# Altium schematic symbol library TeCrea-Misc.SCHLIB: 96 symbols (part 1 of 3)
Pins are listed as number, name and electrical type; pins without a type are passive.

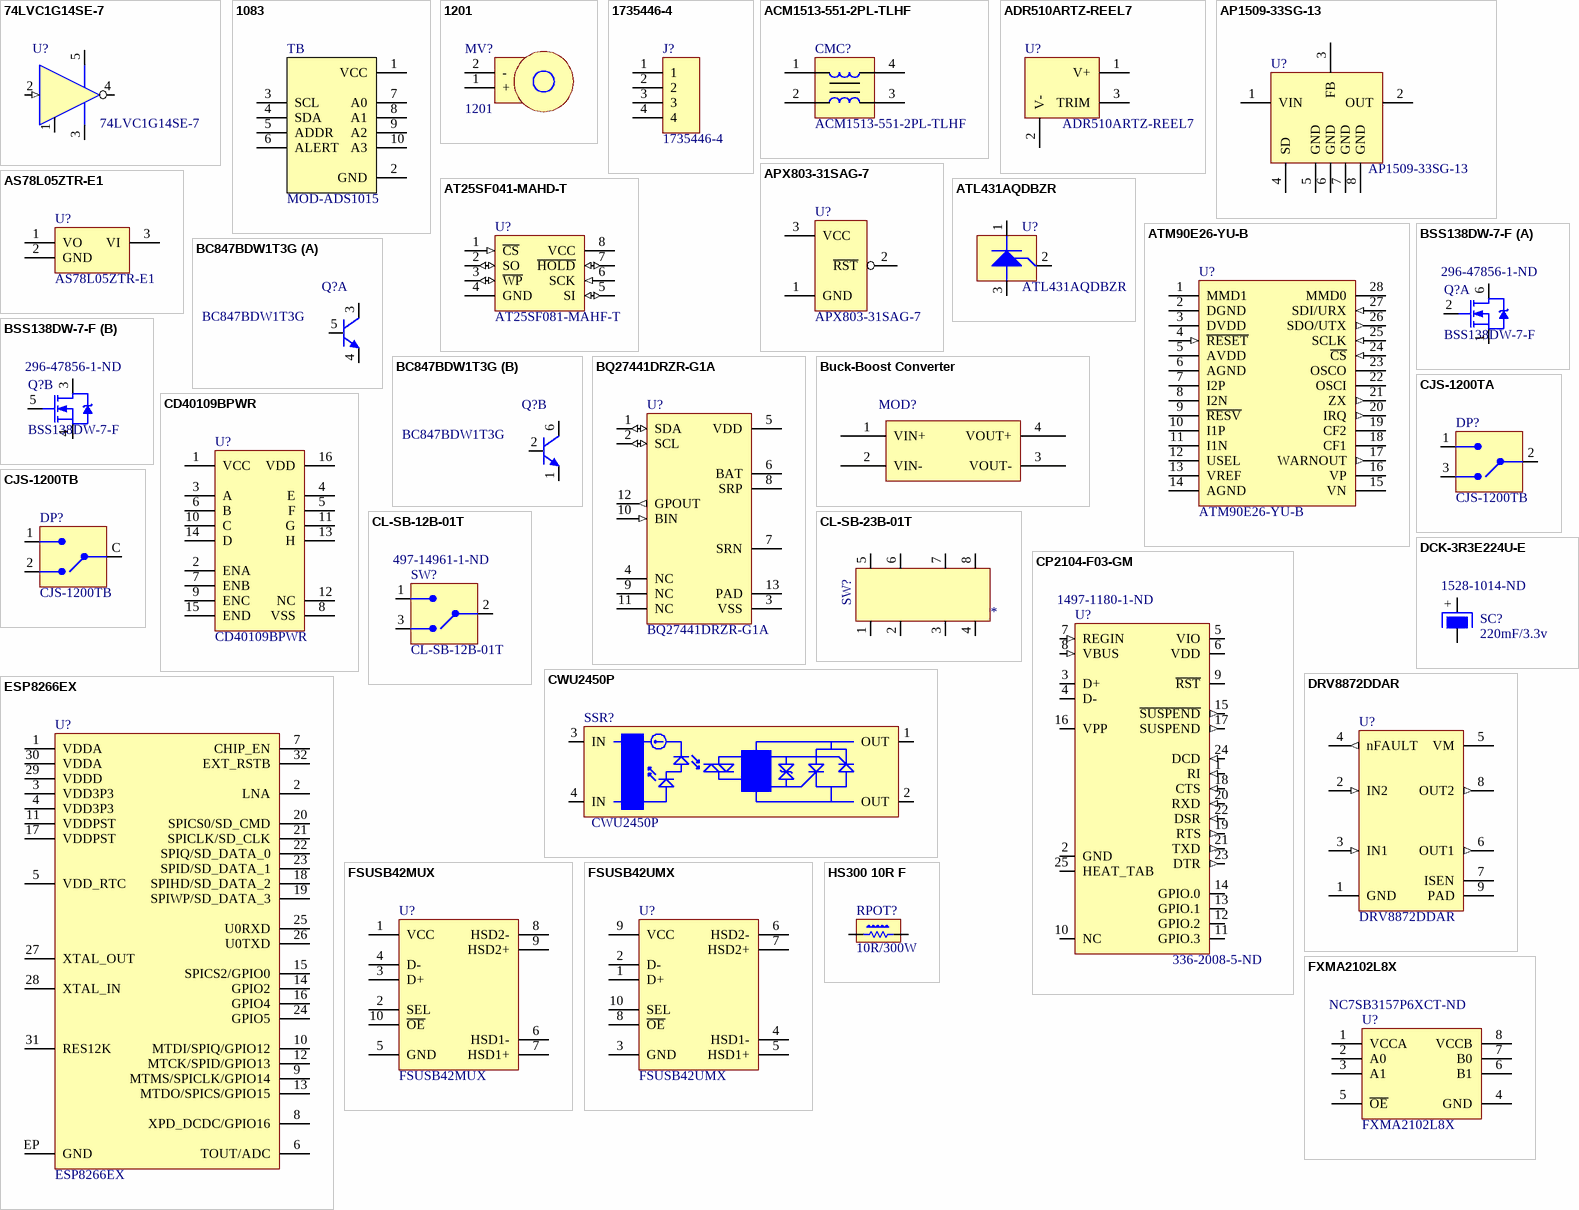
[diagram p0: symbols 74LVC1G14SE-7 to HS300 10R F]

## 74LVC1G14SE-7
designator U?
IC SGL SCHMITT INVERTER SOT353; Manufacturer: Diodes Incorporated; Number of Circuits: 1; Voltage - Supply: 1.65 V ~ 5.5 V; Current - Quiescent (Max): 200µA; Current - Output High, Low: 32mA, 32mA; Logic Level - Low: 0.3 V ~ 1.45 V; Logic Level - High: 1.2 V ~ 3.33 V; Max Propagation Delay @ V, Max CL: 5ns @ 5V, 50pF; Supplier 1: Digi-Key; Manufacturer Part Number: 74LVC1G14SE-7; RoHS: RoHS Compliant; Category: Integrated Circuits (ICs); Stock 1: 22109; Pricing 1: 1=0.26, 10=0.216, 100=0.1145, 500=0.07528, 1000=0.05129 (USD); Packaging: Cut Tape (CT); Part Status: Active; Logic Type: Inverter; Number of Inputs: 1; Features: Schmitt Trigger; Operating Temperature: -40°C ~ 125°C; Mounting Type: Surface Mount; Supplier Device Package: SOT-353; Package / Case: 5-TSSOP, SC-70-5, SOT-353; ComponentLink1URL: http://www.diodes.com/_files/datasheets/74LVC1G14.pdf; ComponentLink1Description: http://www.diodes.com/_files/datasheets/74LVC1G14.pdf; Supplier Part Number 1: 74LVC1G14SE-7CT-ND; Value: 74LVC1G14SE-7
footprint DCK5_2P15X1P4
pins: 1 NC, 2 A (in), 3 GND (power), 4 Y (oc), 5 VCC (power)

## 1083
designator TB, comment MOD-ADS1015
EVAL BOARD ADS1015 12-BIT ADC; Manufacturer: Adafruit Industries; Manufacturer Part Number: 1083; Number of Bits: 12; Evaluation Kit: Yes; Number of A/D Converters: 1; Sampling Rate: 3300S/s; Interface: I2C,Serial; Supplier 1: Digi-Key; RoHS: Yes; Category: Integrated Circuits (ICs); Stock 1: 149; Pricing 1: 1=9,95000 (USD); Weight: 0.25lb; Series: -; Length: 4inch; Width: 2.5inch; Height: 0.25inch; ComponentLink1URL: http://www.alliedelec.com/m/d/e1a2ab321d3e1c71f82076eef7bd2507.pdf?src-supplier=Allied+Electronics; ComponentLink1Description: http://www.alliedelec.com/m/d/e1a2ab321d3e1c71f82076eef7bd2507.pdf?src-supplier=Allied+Electronics; ComponentLink2URL: https://cdn-learn.adafruit.com/downloads/pdf/adafruit-4-channel-adc-breakouts.pdf?src-supplier=Digi-Key; ComponentLink2Description: https://cdn-learn.adafruit.com/downloads/pdf/adafruit-4-channel-adc-breakouts.pdf?src-supplier=Digi-Key; Supplier Part Number 1: 1528-1014-ND
footprint MOD-ADS1015-10L
pins: 1 VCC, 2 GND, 3 SCL, 4 SDA, 5 ADDR, 6 ALERT, 7 A0, 8 A1, 9 A2, 10 A3

## 1201
designator MV?
VIBRATION MOTOR 11000 RPM 5VDC; Manufacturer 1: Adafruit Industries; Supplier 1: Digi-Key; Manufacturer Part Number 1: 1201; Stock 1: 1224; Pricing 1: 1=1,95000 (USD); RoHS: Yes; Weight: 0.002lb; Termination: Wire Leads; RPM: 11000RPM; ComponentLink1URL: https://media.digikey.com/pdf/Data%20Sheets/Adafruit%20PDFs/1201_Web.pdf?src-supplier=Digi-Key; ComponentLink1Description: https://media.digikey.com/pdf/Data%20Sheets/Adafruit%20PDFs/1201_Web.pdf?src-supplier=Digi-Key; Value: 1201; Supplier Part Number 1: 1528-1177-ND
footprint 1201 (VIBRATION ERM MTR 11000 RPM 5V)
pins: 1 +, 2 -

## 1735446-4
designator J?
CONN HEADER 4PS 2MM VERT W/LATCH; Manufacturer: TE Connectivity AMP Connectors; Pitch - Mating: 0.079" (2.00mm); Style: Board to Cable/Wire; Shrouding: Shrouded - 3 Wall; Number of Positions: 4; Number of Positions Loaded: All; Contact Length - Mating: 0.132" (3.35mm); Contact Length - Post: 0.134" (3.40mm); Material Flammability Rating: UL94 V-0; Current Rating: 3A; Voltage Rating: 250V; Supplier 1: Digi-Key; Manufacturer Part Number: 1735446-4; RoHS: RoHS Compliant; Category: Connectors, Interconnects; Stock 1: 41605; Pricing 1: 1=0.14, 10=0.128, 25=0.0952, 50=0.0816, 100=0.0788, 250=0.06796, 500=0.06524, 1000=0.05709, 2500=0.05165 (USD); Packaging: Bulk; Part Status: Active; Connector Type: Header; Contact Type: Male Pin; Number of Rows: 1; Row Spacing - Mating: -; Mounting Type: Through Hole; Termination: Press-Fit, Solder; Fastening Type: Locking Ramp; Overall Contact Length: -; Insulation Height: 0.239" (6.07mm); Contact Shape: Square; Contact Finish - Mating: Tin; Contact Finish Thickness - Mating: -; Contact Finish - Post: Tin; Contact Material: Copper Alloy; Insulation Material: Thermoplastic; Features: -; Operating Temperature: -25°C ~ 85°C; Ingress Protection: -; Insulation Color: Natural; Mated Stacking Heights: -; Contact Finish Thickness - Post: -; Applications: Automotive, General Purpose, Industrial, Medical; ComponentLink1URL: http://www.te.com/commerce/DocumentDelivery/DDEController?Action=srchrtrv&DocNm=1735446&DocType=Customer+Drawing&DocLang=English; ComponentLink1Description: http://www.te.com/commerce/DocumentDelivery/DDEController?Action=srchrtrv&DocNm=1735446&DocType=Customer+Drawing&DocLang=English; Value: 1735446-4; Supplier Part Number 1: A100098-ND
footprint 1735446-4
pins: 1, 2, 3, 4

## ACM1513-551-2PL-TLHF
designator CMC?
Common Mode Filters / Chokes 550ohms 10A 0.004ohm Common Mode Filter; Manufacturer 1: TDK; DC Resistance (DCR): 4mR; Test Frequency: 100MHz; Number of Lines: 2; Impedance: 550R; Supplier 1: Digi-Key; Manufacturer Part Number 1: ACM1513-551-2PL-TLHF; RoHS: Yes; Category: Common Mode Chokes; Stock 1: 86275; Pricing 1: 1=2,70000, 10=2,49400, 100=1,74560 (USD); Mount: Surface Mount; Case/Package: 6052; Min Operating Temperature: -40°C; Max Operating Temperature: 85°C; Current: 10A; DC Current: 10A; Current Rating: 10A; Termination: SMD/SMT; Package Quantity: 1; Packaging: Tape and Reel; Length: 0.591inch; Height: 0.236inch; Depth: 13.4mm; Width: 0.512inch; Lead Free: Lead Free; ComponentLink1URL: https://datasheet.ciiva.com/28376/e9713-acm-28376279.pdf?src-supplier=Avnet+Europe; ComponentLink1Description: https://datasheet.ciiva.com/28376/e9713-acm-28376279.pdf?src-supplier=Avnet+Europe; Value: ACM1513-551-2PL-TLHF; Supplier Part Number 1: 445-9331-1-ND
footprint ACM1513
pins: 1, 2, 3, 4

## ADR510ARTZ-REEL7
designator U?
IC VREF SHUNT 1V SOT23-3; Manufacturer: Analog Devices Inc.; Output Type: Fixed; Current - Output: 10mA; Tolerance: ±0.35%; Temperature Coefficient: 85ppm/°C; Noise - 0.1Hz to 10Hz: 4µVp-p; Current - Cathode: 100µA; Supplier 1: Digi-Key; Manufacturer Part Number: ADR510ARTZ-REEL7; RoHS: RoHS Compliant; Category: Integrated Circuits (ICs); Stock 1: 9660; Pricing 1: 1=1.61, 10=1.447, 100=1.1628, 500=0.95532, 1000=0.79156 (USD); Packaging: Cut Tape (CT); Part Status: Active; Reference Type: Shunt; Voltage - Output (Min/Fixed): 1V; Voltage - Output (Max): -; Noise - 10Hz to 10kHz: -; Voltage - Input: -; Current - Supply: -; Operating Temperature: -40°C ~ 85°C (TA); Mounting Type: Surface Mount; Package / Case: TO-236-3, SC-59, SOT-23-3; Supplier Device Package: SOT-23-3; ComponentLink1URL: http://www.analog.com/media/en/technical-documentation/data-sheets/ADR510.pdf; ComponentLink1Description: http://www.analog.com/media/en/technical-documentation/data-sheets/ADR510.pdf; Supplier Part Number 1: ADR510ARTZ-REEL7CT-ND; Value: ADR510ARTZ-REEL7
footprint SOT-23_N (SOT23, 3-Leads, Body 2.9x1.3mm, Pitch 0.95mm, Lead Span 2.5mm, IPC Medium Density)
pins: 1 V+, 2 V-, 3 TRIM

## AP1509-33SG-13
designator U?
IC REG BUCK 3.3V 2A 8SOIC; Manufacturer: Diodes Incorporated; Function: Step-Down; Output Configuration: Positive; Output Type: Fixed; Number of Outputs: 1; Voltage - Input (Min): 4.5V; Voltage - Input (Max): 22V; Frequency - Switching: 150kHz; Synchronous Rectifier: No; Supplier 1: Digi-Key; Manufacturer Part Number: AP1509-33SG-13; RoHS: RoHS Compliant; Category: Integrated Circuits (ICs); Stock 1: 918; Pricing 1: 1=1.63, 10=1.459, 100=1.1373, 500=0.93948, 1000=0.74169 (USD); Packaging: Cut Tape (CT); Part Status: Active; Topology: Buck; Voltage - Output (Min/Fixed): 3.3V; Voltage - Output (Max): -; Current - Output: 2A; Operating Temperature: -20°C ~ 85°C (TA); Mounting Type: Surface Mount; Package / Case: 8-SOIC (0.154", 3.90mm Width); Supplier Device Package: 8-SOP; ComponentLink1URL: http://www.diodes.com/assets/Datasheets/AP1509.pdf; ComponentLink1Description: http://www.diodes.com/assets/Datasheets/AP1509.pdf; Value: AP1509-33SG-13; Supplier Part Number 1: AP1509-33SGDICT-ND
footprint SOIC8 (SOIC, 8-Leads, Body 4.9x3.9mm, Pitch 1.27mm, IPC Medium Density)
pins: 1 VIN, 2 OUT, 3 FB, 4 SD, 5 GND, 6 GND, 7 GND, 8 GND

## APX803-31SAG-7
designator U?
IC MPU RESET CIRC 3.08V SOT23-3; Manufacturer: Diodes Incorporated; Output: Open Drain or Open Collector; Reset: Active Low; Reset Timeout: 140 ms Minimum; Supplier 1: Digi-Key; Manufacturer Part Number: APX803-31SAG-7; RoHS: RoHS Compliant; Category: Integrated Circuits (ICs); Stock 1: 13889; Pricing 1: 1=0.43, 10=0.349, 100=0.2373, 500=0.17798, 1000=0.13349 (USD); Packaging: Cut Tape (CT); Part Status: Active; Type: Simple Reset/Power-On Reset; Voltage - Threshold: 3.08V; Operating Temperature: -40°C ~ 85°C (TA); Mounting Type: Surface Mount; Package / Case: TO-236-3, SC-59, SOT-23-3; Supplier Device Package: SOT-23-3; ComponentLink1URL: http://media.digikey.com/pdf/Data%20Sheets/Diodes%20PDFs/APX803_D_Rev_3.3.pdf; ComponentLink1Description: http://media.digikey.com/pdf/Data%20Sheets/Diodes%20PDFs/APX803_D_Rev_3.3.pdf; Supplier Part Number 1: APX803-31SAG-7DICT-ND; Value: APX803-31SAG-7
footprint SOT-23_M (SOT23, 3-Leads, Body 2.9x1.3mm, Pitch 0.95mm, Lead Span 2.5mm, IPC Low Density)
pins: 1 GND, 2 ~{RST}, 3 VCC

## AS78L05ZTR-E1
designator U?
Standard Regulator Pos 5V 0.1A 3-Pin TO-92 Ammo Pack; Manufacturer: Diodes; Output Type: Fixed; Dropout Voltage: 1.8V; Number of Outputs: 1; Max Input Voltage: 30V; Max Output Current: 100mA; Max Power Dissipation: 750mW; Polarity: Positive; Quiescent Current: 3mA; Accuracy: 5%; Supplier 1: Digi-Key; Manufacturer Part Number: AS78L05ZTR-E1; RoHS: Yes; Category: Voltage Regulators - Linear; Stock 1: 6278; Pricing 1: 1=0,34000, 10=0,25600, 25=0,22400, 100=0,12810, 250=0,12008, 500=0,09606, 1000=0,07365 (USD); Mount: Through Hole; Case/Package: TO-92; Number of Pins: 3; Min Operating Temperature: -40°C; Max Operating Temperature: 125°C; Package Quantity: 1; Packaging: Tape and Reel; Output Voltage: 5V; Output Current: 100mA; Number of Regulators: 1; Power Dissipation: 750mW; Length: 4.8mm; Height: 4.7mm; Width: 3.8mm; ComponentLink1URL: https://datasheet.ciiva.com/29569/as78lxx-29569865.pdf?src-supplier=Digi-Key; ComponentLink1Description: https://datasheet.ciiva.com/29569/as78lxx-29569865.pdf?src-supplier=Digi-Key; ComponentLink2URL: https://datasheet.ciiva.com/29569/as78lxx-29569853.pdf?src-supplier=Digi-Key; ComponentLink2Description: https://datasheet.ciiva.com/29569/as78lxx-29569853.pdf?src-supplier=Digi-Key; ComponentLink3URL: https://datasheet.ciiva.com/30016/as78lxx-30016638.pdf?src-supplier=Avnet; ComponentLink3Description: https://datasheet.ciiva.com/30016/as78lxx-30016638.pdf?src-supplier=Avnet; Value: AS78L05ZTR-E1; Supplier Part Number 1: AS78L05ZTR-E1DICT-ND
footprint TO-92
pins: 1 VO, 2 GND, 3 VI

## AT25SF041-MAHD-T
designator U?, comment AT25SF081-MAHF-T
8-UDFN (2X3X0.6), IND TEMP, 2.5V, T&R; Manufacturer: Adesto Technologies; Interface: SPI,Serial; Density: 8MB; Access Time: 8ns; Operating Supply Voltage: 3.3V; Page Size: 256B; Max Supply Voltage: 3.6V; Supplier 1: Digi-Key; Manufacturer Part Number: AT25SF081-MAHF-T; Stock 1: 5291; Pricing 1: 1=0.63 (USD); Mount: Surface Mount; Min Operating Temperature: -40°C; Max Operating Temperature: 85°C; Min Supply Voltage: 2.5V; Packaging: Tape and Reel; Lead Free: Lead Free; ComponentLink1URL: http://www.adestotech.com/wp-content/uploads/DS-AT25SF041_044.pdf; ComponentLink1Description: http://www.adestotech.com/wp-content/uploads/DS-AT25SF041_044.pdf; ComponentLink2URL: http://www.mouser.com/ds/2/590/DS-AT25SF041_044-534001.pdf; ComponentLink2Description: http://www.mouser.com/ds/2/590/DS-AT25SF041_044-534001.pdf; Value: AT25SF081-MAHF-T; Supplier Part Number 1: 1265-1294-1-ND
footprint UDFN8-2X3 (UDFN, 8-Leads, Body 2,00x3,00mm, Pitch 0,50mm, Thermal Pad 1,60x0,20mm, IPC Medium Density)
footprint TSOP65P640X120-8N (TSOP, 8-Leads, Body 3,00x4,40mm, Pitch 0,65mm, IPC Medium Density)
pins: 1 ~{CS} (in), 2 SO (io), 3 ~{WP} (io), 4 GND, 5 SI (io), 6 SCK (in), 7 ~{HOLD} (io), 8 VCC

## ATL431AQDBZR
designator U?
IC VREF SHUNT ADJ SOT23-3; Manufacturer: Texas Instruments; Min Output Voltage: 2.5V; Max Output Voltage: 36V; Output Current: 100mA; Temperature Coefficient: 82ppm/°C; Cathode Current: 35uA; Tolerance: 1%; Output Type: Adjustable; Supplier 1: Digi-Key; Manufacturer Part Number: ATL431AQDBZR; RoHS: Yes; Stock 1: 7625; Pricing 1: 1 = 0,60000, 10 = 0,53000, 100 = 0,40650, 500 = 0,32136, 1000 = 0,25709 (USD); Mount: Surface Mount; Case/Package: TO-236-3; Min Operating Temperature: -40°C; Max Operating Temperature: 125°C; Packaging: Tape and Reel; Reference Type: Shunt; Lead Free: Lead Free; Value: ATL431AQDBZR; Supplier Part Number 1: 296-47201-1-ND
footprint SOT-23_L (SOT23, 3-Leads, Body 2.9x1.3mm, Pitch 0.95mm, Lead Span 2.5mm, IPC High Density)
pins: 1 K, 2 VREF, 3 A

## ATM90E26-YU-B
designator U?
IC ENERGY METER 1.8V/3V 28SSOP; Manufacturer: Microchip Technology; Input Impedance: 1 kOhm, 400 kOhm; Measurement Error: 0.5%; Voltage - Supply: 2.8 V ~ 3.6 V; Meter Type: Single Phase; Supplier 1: Digi-Key; Manufacturer Part Number: ATM90E26-YU-B; RoHS: RoHS Compliant; Category: Integrated Circuits (ICs); Stock 1: 9396; Pricing 1: 1=0.95, 25=0.8756, 100=0.8369 (USD); Packaging: Bulk; Part Status: Active; Voltage - I/O High: -; Voltage - I/O Low: -; Current - Supply: -; Operating Temperature: -40°C ~ 85°C; Mounting Type: Surface Mount; Package / Case: 28-SSOP (0.209", 5.30mm Width); Supplier Device Package: 28-SSOP; ComponentLink1URL: http://www.atmel.com/Images/Atmel-46002-SE-M90E26-Datasheet.pdf; ComponentLink1Description: http://www.atmel.com/Images/Atmel-46002-SE-M90E26-Datasheet.pdf; Supplier Part Number 1: ATM90E26-YU-B-ND; Value: ATM90E26-YU-B
footprint SOP127P600-8N
pins: 1 MMD1, 2 DGND, 3 DVDD, 4 ~{RESET} (in), 5 AVDD, 6 AGND, 7 I2P, 8 I2N, 9 ~{RESV}, 10 I1P, 11 I1N, 12 USEL, 13 VREF, 14 AGND, 15 VN, 16 VP, 17 WARNOUT (out), 18 CF1, 19 CF2, 20 IRQ (out), 21 ZX (out), 22 OSCI, 23 OSCO, 24 ~{CS} (in), 25 SCLK (in), 26 SDO/UTX (out), 27 SDI/URX (in), 28 MMD0

## BC847BDW1T3G
designator Q?
TRANS 2NPN 45V 0.1A SOT363; Manufacturer: ON Semiconductor; Transistor Type: 2 NPN (Dual); Current - Collector (Ic) (Max): 100mA; Vce Saturation (Max) @ Ib, Ic: 600mV @ 5mA, 100mA; Current - Collector Cutoff (Max): 15nA (ICBO); DC Current Gain (hFE) (Min) @ Ic, Vce: 200 @ 2mA, 5V; Power - Max: 380mW; Frequency - Transition: 100MHz; Supplier 1: Digi-Key; Manufacturer Part Number: BC847BDW1T3G; RoHS: RoHS Compliant; Category: Discrete Semiconductor Products; Stock 1: 29723; Pricing 1: 1=0.23, 10=0.192, 100=0.1016, 500=0.06678, 1000=0.0455 (USD); Packaging: Cut Tape (CT); Part Status: Active; Voltage - Collector Emitter Breakdown (Max): 45V; Operating Temperature: -55°C ~ 150°C (TJ); Mounting Type: Surface Mount; Package / Case: 6-TSSOP, SC-88, SOT-363; Supplier Device Package: SC-88/SC70-6/SOT-363; ComponentLink1URL: http://www.onsemi.com/pub_link/Collateral/BC846BDW1T1-D.PDF; ComponentLink1Description: http://www.onsemi.com/pub_link/Collateral/BC846BDW1T1-D.PDF; Value: BC847BDW1T3G; Supplier Part Number 1: BC847BDW1T3GOSCT-ND
footprint SOT-363
part A pins: 3 C, 4 E, 5 B
part B pins: 1 E, 2 B, 6 C

## BQ27441DRZR-G1A
designator U?
IC BATT FUEL GAUGE LI-ION 12SON; Manufacturer: Texas Instruments; Number of Cells: 1; Interface: I2C; Capacity: 8000mAh; Output Voltage: 600mV; Output Current: 500uA; Operating Supply Voltage: 4.5V; Supplier 1: Digi-Key; Manufacturer Part Number: BQ27441DRZR-G1A; Stock 1: 6597; Pricing 1: 1=2.62, 10=2.353, 100=1.8911, 500=1.5538, 1000=1.2874 (USD); Mount: Surface Mount; Case/Package: QFN; Number of Pins: 12; Contact Plating: Nickel,Gold; Min Operating Temperature: -40°C; Max Operating Temperature: 85°C; Package Quantity: 3000; Packaging: Tape and Reel; Lead Free: Lead Free; ComponentLink1URL: http://www.ti.com/general/docs/lit/getliterature.tsp?genericPartNumber=BQ27441-G1&amp;&amp;fileType=pdf; ComponentLink1Description: http://www.ti.com/general/docs/lit/getliterature.tsp?genericPartNumber=BQ27441-G1&amp;&amp;fileType=pdf; ComponentLink2URL: http://www.ti.com/lit/gpn/bq27441-g1; ComponentLink2Description: http://www.ti.com/lit/gpn/bq27441-g1; ComponentLink3URL: http://www.ti.com/lit/pdf/sluuac; ComponentLink3Description: http://www.ti.com/lit/pdf/sluuac; ComponentLink4URL: http://www.ti.com/general/docs/lit/getliterature.tsp?genericPartNumber=BQ27441-G1&&fileType=pdf; ComponentLink4Description: http://www.ti.com/general/docs/lit/getliterature.tsp?genericPartNumber=BQ27441-G1&&fileType=pdf; Supplier Part Number 1: 296-39941-6-ND; Value: BQ27441DRZR-G1A
footprint SON40P400X100_HS-13N (SON, 12-Leads, Body 2.50x4.00mm, Pitch 0.40mm, Thermal Pad 1.95x2.33mm, IPC Medium Density)
pins: 1 SDA (io), 2 SCL (io), 3 VSS, 4 NC, 5 VDD, 6 BAT, 7 SRN, 8 SRP, 9 NC, 10 BIN (in), 11 NC, 12 GPOUT (out), 13 PAD

## BSS138DW-7-F
designator Q?  Supplier Part Number 2: 296-47856-1-ND
MOSFET 2N-CH 50V 0.2A SC70-6; Manufacturer: Diodes Incorporated; FET Type: 2 N-Channel (Dual); FET Feature: Logic Level Gate; Current - Continuous Drain (Id) @ 25°C: 200mA; Rds On (Max) @ Id, Vgs: 3.5 Ohm @ 220mA, 10V; Vgs(th) (Max) @ Id: 1.5V @ 250µA; Input Capacitance (Ciss) @ Vds: 50pF @ 10V; Power - Max: 200mW; Supplier 1: Digi-Key; Supplier Part Number 1: BSS138DW-FDICT-ND; Manufacturer Part Number: BSS138DW-7-F; RoHS: RoHS Compliant; Category: Discrete Semiconductor Products; Stock 1: 166676; Pricing 1: 1=0.45, 10=0.363, 100=0.2475, 500=0.18526, 1000=0.13875 (USD); Packaging: Cut Tape (CT); Drain to Source Voltage (Vdss): 50V; Gate Charge (Qg) @ Vgs: -; Operating Temperature: -55°C ~ 150°C (TJ); Mounting Type: Surface Mount; Package / Case: 6-TSSOP, SC-88, SOT-363; Supplier Device Package: SOT-363; ComponentLink1URL: http://www.diodes.com/_files/datasheets/ds30203.pdf; ComponentLink1Description: http://www.diodes.com/_files/datasheets/ds30203.pdf; Value: BSS138DW-7-F; Supplier 2: Digi-Key
footprint SOT-363
part A pins: 1 S, 2 G, 6 D
part B pins: 3 D, 4 S, 5 G

## Buck-Boost Converter
designator MOD?
This converter can take an input voltage of anywhere from 3-16V which can then be regulated to an output voltage between 2.5-9V. With the switch on the bottom of the board, you can set the common output voltages of 3.3V and 5V, but we've also added a custom setting
footprint PCB BOOTS
pins: 1 VIN+, 2 VIN-, 3 VOUT-, 4 VOUT+

## CD40109BPWR
designator U?
IC CMOS LO-HI V LVL SHFT 16TSSOP; Manufacturer: Texas Instruments; Translator Type: Voltage Level; Channel Type: Unidirectional; Channels per Circuit: 1; Output Type: Tri-State, Non-Inverted; Supplier 1: Digi-Key; Manufacturer Part Number: CD40109BPWR; RoHS: RoHS Compliant; Category: Integrated Circuits (ICs); Stock 1: 11881; Pricing 1: 1=0.43, 10=0.367, 100=0.274, 500=0.21528, 1000=0.16635 (USD); Packaging: Cut Tape (CT); Part Status: Active; Input Signal: -; Output Signal: -; Data Rate: -; Operating Temperature: -55°C ~ 125°C (TA); Features: -; Mounting Type: Surface Mount; Package / Case: 16-TSSOP (0.173", 4.40mm Width); Supplier Device Package: 16-TSSOP; Base Part Number: 40109; ComponentLink1URL: http://www.ti.com/lit/ds/symlink/cd40109b.pdf; ComponentLink1Description: http://www.ti.com/lit/ds/symlink/cd40109b.pdf; Value: CD40109BPWR; Supplier Part Number 1: 296-12163-1-ND
footprint TSOP65P640X120-16N (TSOP, 16-Leads, Body 5.00x4.40mm, Pitch 0.65mm, IPC Medium Density)
pins: 1 VCC, 2 ENA, 3 A, 4 E, 5 F, 6 B, 7 ENB, 8 VSS, 9 ENC, 10 C, 11 G, 12 NC, 13 H, 14 D, 15 END, 16 VDD

## CJS-1200TA
designator DP?, comment CJS-1200TB
SWITCH SLIDE DIP SPDT 100MA 6V; Manufacturer: Copal Electronics Inc.; Number of Positions: 2; Voltage Rating: 6VDC; Actuator Type: Slide (Standard); Actuator Level: Flush, Recessed; Washable: Yes; Body Material: Polyphenylene Sulfide (PPS); Electrical Life: 200 Cycles; Supplier 1: Digi-Key; Manufacturer Part Number: CJS-1200TB; RoHS: RoHS Compliant; Category: Switches; Stock 1: 92481; Pricing 1: 1=0.85, 10=0.838, 25=0.7892, 50=0.741, 100=0.7088, 250=0.6766, 500=0.61216 (USD); Packaging: Cut Tape (CT); Part Status: Active; Circuit: SPDT; Current Rating: 100mA; Contact Material: Copper Alloy; Contact Finish: Gold; Height Above Board: 0.098" (2.50mm); Mounting Type: Surface Mount; Termination Style: Gull Wing; Pitch: -; Features: Tape Seal; Length: 0.212" (5.40mm); Operating Temperature: -40°C ~ 85°C; Mechanical Life: -; ComponentLink1URL: http://www.nidec-copal-electronics.com/e/catalog/switch/cjs.pdf; ComponentLink1Description: http://www.nidec-copal-electronics.com/e/catalog/switch/cjs.pdf; Value: CJS-1200TB; Supplier Part Number 1: 563-1022-1-ND
footprint CJS-1200TA
pins: 1, 2, 3 2

## CJS-1200TB
designator DP?
SWITCH SLIDE DIP SPDT 100MA 6V; Manufacturer: Copal Electronics Inc.; Number of Positions: 2; Voltage Rating: 6VDC; Actuator Type: Slide (Standard); Actuator Level: Flush, Recessed; Washable: Yes; Body Material: Polyphenylene Sulfide (PPS); Electrical Life: 200 Cycles; Supplier 1: Digi-Key; Manufacturer Part Number: CJS-1200TB; RoHS: RoHS Compliant; Category: Switches; Stock 1: 92481; Pricing 1: 1=0.85, 10=0.838, 25=0.7892, 50=0.741, 100=0.7088, 250=0.6766, 500=0.61216 (USD); Packaging: Cut Tape (CT); Part Status: Active; Circuit: SPDT; Current Rating: 100mA; Contact Material: Copper Alloy; Contact Finish: Gold; Height Above Board: 0.098" (2.50mm); Mounting Type: Surface Mount; Termination Style: Gull Wing; Pitch: -; Features: Tape Seal; Length: 0.212" (5.40mm); Operating Temperature: -40°C ~ 85°C; Mechanical Life: -; ComponentLink1URL: http://www.nidec-copal-electronics.com/e/catalog/switch/cjs.pdf; ComponentLink1Description: http://www.nidec-copal-electronics.com/e/catalog/switch/cjs.pdf; Value: CJS-1200TB; Supplier Part Number 1: 563-1022-1-ND
footprint CJS-1200TB (Dip Switch SPDT 2 Position Surface Mount Slide (Standard) Actuator 100mA 6VDC)
pins: 1, 2, C

## CL-SB-12B-01T
designator SW?  Supplier Part Number 2: 497-14961-1-ND
SWITCH SLIDE SPDT 200MA 12V; Manufacturer: Copal Electronics Inc.; Contact Timing: Non-Shorting (BBM); Switch Function: On-On; Current Rating: 200mA (DC); Actuator Type: Standard; Actuator Length: 2.00mm; Actuator Material: Polyamide (PA), Nylon; Electrical Life: 10,000 Cycles; Operating Force: 153gf; Supplier 1: Digi-Key; Manufacturer Part Number: CL-SB-12B-01T; RoHS: RoHS Compliant; Category: Switches; Stock 1: 23000; Pricing 1: 500=0.53328, 1000=0.51712, 5000=0.45248 (USD); Packaging: Tape & Reel (TR); Part Status: Active; Circuit: SPDT; Voltage Rating - AC: -; Voltage Rating - DC: 12V; Contact Material: Copper; Contact Finish: Silver; Mounting Type: Surface Mount; Termination Style: Gull Wing; Features: -; Switch Travel: 2.00mm; Operating Temperature: -40°C ~ 85°C; Mechanical Life: -; ComponentLink1URL: http://www.nidec-copal-electronics.com/e/catalog/switch/cl-sb.pdf; ComponentLink1Description: http://www.nidec-copal-electronics.com/e/catalog/switch/cl-sb.pdf; Value: CL-SB-12B-01T; Supplier Part Number 1: 563-1318-2-ND; Supplier 2: Digi-Key
footprint CL-SB-12B-01T
pins: 1, 2, 3

## CL-SB-23B-01T
designator SW?
SWITCH SLIDE DP3T 200MA 12V; Manufacturer: Copal Electronics Inc.; Manufacturer Part Number: CL-SB-23B-01T; Contact Timing: Non-Shorting (BBM); Switch Function: On-On-On; Current Rating: 200mA (DC); Actuator Type: Standard; Actuator Length: 2.00mm; Actuator Material: Polyamide (PA), Nylon; Electrical Life: 10,000 Cycles; Operating Force: 160/260gf; Supplier 1: Digi-Key; RoHS: RoHS Compliant; Category: Switches; Stock 1: 1946; Pricing 1: 1=1.15, 10=1.107, 25=1.0836, 50=0.9682, 100=0.9221, 250=0.89908 (USD); Packaging: Cut Tape (CT); Part Status: Active; Circuit: DP3T; Voltage Rating - AC: -; Voltage Rating - DC: 12V; Contact Material: Copper; Contact Finish: Silver; Mounting Type: Surface Mount; Termination Style: Gull Wing; Features: -; Switch Travel: 2.00mm; Operating Temperature: -40°C ~ 85°C; Mechanical Life: -; ComponentLink1URL: http://www.nidec-copal-electronics.com/e/catalog/switch/cl-sb.pdf; ComponentLink1Description: http://www.nidec-copal-electronics.com/e/catalog/switch/cl-sb.pdf; Supplier Part Number 1: 563-1354-1-ND; Value: *
footprint CL-SB-23B-01T (Slide Switch DP3T Surface Mount)
pins: 1, 2, 3, 4, 5, 6, 7, 8

## CP2104-F03-GM
designator U?, comment 336-2008-5-ND  Supplier Part Number 2: 1497-1180-1-ND
IC SGL USB-DL UART BRIDGE 24QFN; Manufacturer: Silicon Labs; Manufacturer Part Number: CP2104-F03-GM; Protocol: USB; Function: Bridge, USB to UART; Standards: USB 2.0; Voltage - Supply: 1.8V, 3 V ~ 3.6 V; Current - Supply: 17mA; Populated: Yes; RoHS: RoHS Compliant; Category: Integrated Circuits (ICs); Packaging: Tube; Interface: UART; Operating Temperature: -40°C ~ 85°C; Package / Case: 24-WFQFN Exposed Pad; Supplier Device Package: 24-QFN (4x4); ComponentLink1URL: http://www.silabs.com/Support%20Documents/TechnicalDocs/CP2105.pdf; ComponentLink1Description: http://www.silabs.com/Support%20Documents/TechnicalDocs/CP2105.pdf; Value: 336-2008-5-ND; Supplier 1: Digi-Key; Supplier Part Number 1: 336-2008-5-ND; Supplier 2: Digi-Key
footprint QFN24_4X4
footprint QFN24_4X4-L
footprint QFN24_4X4-M
pins: 1 RI (in), 2 GND (power), 3 D+, 4 D-, 5 VIO (power), 6 VDD (power), 7 REGIN (in), 8 VBUS (in), 9 ~{RST}, 10 NC, 11 GPIO.3, 12 GPIO.2, 13 GPIO.1, 14 GPIO.0, 15 ~{SUSPEND} (out), 16 VPP, 17 SUSPEND (out), 18 CTS (in), 19 RTS (out), 20 RXD (in), 21 TXD (out), 22 DSR (in), 23 DTR (out), 24 DCD (in), 25 HEAT_TAB

## CWU2450P
designator SSR?
RELAY SSR 280VAC 50A PANEL MOUNT; Manufacturer: Crydom Co.; Circuit: SPST-NO (1 Form A); Output Type: AC, Zero Cross; Voltage - Input: 20 ~ 48VDC, 20 ~ 280VAC; Voltage - Load: 24 ~ 280 V; Populated: Yes; Supplier 1: Digi-Key; Supplier Part Number 1: CC2094-ND; Manufacturer Part Number: CWU2450P; RoHS: RoHS Compliant; Category: Relays; Stock 1: 19; Pricing 1: 1=57.67, 10=54.96, 25=53.7, 50=52.43, 100=50.9001 (USD); Packaging: Bulk; On-State Resistance (Max): -; Load Current: 50A; Mounting Type: Chassis Mount or Panel Mount; Termination Style: Screw Terminal; Package / Case: Hockey Puck; Supplier Device Package: -; Relay Type: Relay; ComponentLink1URL: http://www.crydom.com/en/Products/Catalog/c_w24.pdf; ComponentLink1Description: http://www.crydom.com/en/Products/Catalog/c_w24.pdf; Value: CWU2450P
footprint CWU2450P
pins: 1 OUT, 2 OUT, 3 IN, 4 IN

## DCK-3R3E224U-E
designator SC?, comment 220mF/3.3v  Supplier Part Number 2: 1528-1014-ND
CAP 220MF -20% +80% 3.3V SMD; Manufacturer: Elna America; Manufacturer Part Number: DCK-3R3E224U-E; Tolerance: -20%, +80%; ESR (Equivalent Series Resistance): 200 Ohm @ 1kHz; Lifetime @ Temp.: 1000 Hrs @ 60°C; Supplier 1: Digi-Key; RoHS: RoHS Compliant; Category: Capacitors; Stock 1: 32796; Pricing 1: 1=1.41, 10=1.114, 25=1.0208, 50=0.9652, 100=0.8352, 250=0.7424, 500=0.63104, 1000=0.5568, 5000=0.50112 (USD); Packaging: Bulk; Part Status: Active; Capacitance: 220mF; Voltage - Rated: 3.3V; Termination: Solder Pads; Mounting Type: Surface Mount; Package / Case: Coin, Wide Terminals - Same Sides; Lead Spacing: -; Size / Dimension: 0.268" Dia (6.80mm); Height - Seated (Max): 0.083" (2.10mm); Operating Temperature: -10°C ~ 60°C; ComponentLink1URL: http://media.digikey.com/pdf/Data%20Sheets/Elna%20America%20Inc/DC_DCKe.pdf; ComponentLink1Description: http://media.digikey.com/pdf/Data%20Sheets/Elna%20America%20Inc/DC_DCKe.pdf; Supplier Part Number 1: 604-1007-ND; Value: 220mF/3.3v; Supplier 2: Digi-Key
footprint DCK-3R3E224U-E (SuperCap)
pins: +, -

## DRV8872DDAR
designator U?
IC DRIVER DC MOTOR 3.6A 8SOIC; Manufacturer 1: Texas Instruments; Interface: PWM; Fault Protection: Over Temperature; Operating Supply Voltage: 45V; Supplier 1: Digi-Key; Manufacturer Part Number 1: DRV8872DDAR; RoHS: Yes; Stock 1: 39000; Pricing 1: 1=2,51000, 10=2,25300, 25=2,12520, 100=1,70000, 250=1,48752, 500=1,44500, 1000=1,14750 (USD); Mount: Surface Mount; Number of Pins: 8; Min Operating Temperature: -40°C; Max Operating Temperature: 125°C; Packaging: Tape and Reel; Max Output Current: 3.6A; Lead Free: Lead Free; ComponentLink1URL: http://www.ti.com/lit/ds/symlink/drv8872.pdf?src-supplier=Digi-Key; ComponentLink1Description: http://www.ti.com/lit/ds/symlink/drv8872.pdf?src-supplier=Digi-Key; ComponentLink2URL: http://www.ti.com/general/docs/lit/getliterature.tsp?genericPartNumber=DRV8872&&fileType=pdf&src-supplier=Avnet; ComponentLink2Description: http://www.ti.com/general/docs/lit/getliterature.tsp?genericPartNumber=DRV8872&&fileType=pdf&src-supplier=Avnet; Value: DRV8872DDAR; Supplier Part Number 1: 296-42661-1-ND
footprint SOIC8-POWERPAD
pins: 1 GND, 2 IN2 (in), 3 IN1 (in), 4 nFAULT (out), 5 VM, 6 OUT1 (out), 7 ISEN, 8 OUT2 (out), 9 PAD

## ESP8266EX
designator U?
SMD IC ESP8266EX, QFN32-PIN, 5_5; Manufacturer: Espressif Systems; RF Family/Standard: WiFi; Protocol: 802.11b/g/n; Data Rate (Max): 54Mbps; Frequency: 2.4GHz; Power - Output: 20dBm; Sensitivity: -91dBm; Serial Interfaces: I²C, I²S, SPI, UART; Voltage - Supply: 2.5 V ~ 3.6 V; Current - Receiving: 50mA ~ 56mA; Current - Transmitting: 120mA ~ 170mA; Manufacturer Part Number: ESP8266EX; Stock 1: 1158; Pricing 1: 1=2.94 (USD); ComponentLink1URL: //media.digikey.com/pdf/Data%20Sheets/Seeed%20Technology/113990234_Web.pdf; ComponentLink1Description: //media.digikey.com/pdf/Data%20Sheets/Seeed%20Technology/113990234_Web.pdf; Value: ESP8266EX; Package / Case: 32-VFQFN Exposed Pad; Category: RF Transceiver ICs; Supplier Part Number 1: 1904-1001-1-ND; Supplier 1: Digi-Key
footprint QFN32_5X5
footprint QFN32_5X5 - UPDATE
pins: 1 VDDA, 2 LNA, 3 VDD3P3, 4 VDD3P3, 5 VDD_RTC, 6 TOUT/ADC, 7 CHIP_EN, 8 XPD_DCDC/GPIO16, 9 MTMS/SPICLK/GPIO14, 10 MTDI/SPIQ/GPIO12, 11 VDDPST, 12 MTCK/SPID/GPIO13, 13 MTDO/SPICS/GPIO15, 14 GPIO2, 15 SPICS2/GPIO0, 16 GPIO4, 17 VDDPST, 18 SPIHD/SD_DATA_2, 19 SPIWP/SD_DATA_3, 20 SPICS0/SD_CMD, 21 SPICLK/SD_CLK, 22 SPIQ/SD_DATA_0, 23 SPID/SD_DATA_1, 24 GPIO5, 25 U0RXD, 26 U0TXD, 27 XTAL_OUT, 28 XTAL_IN, 29 VDDD, 30 VDDA, 31 RES12K, 32 EXT_RSTB, EP GND

## FSUSB42MUX
designator U?
IC USB SWITCH DPDT 10MSOP; Manufacturer: Fairchild/ON Semiconductor; Number of Channels: 1; On-State Resistance (Max): 6.5 Ohm; Voltage - Supply, Single (V+): 2.4 V ~ 4.4 V; -3db Bandwidth: 720MHz; Supplier 1: Digi-Key; Manufacturer Part Number: FSUSB42MUX; RoHS: RoHS Compliant; Category: Integrated Circuits (ICs); Stock 1: 4344; Pricing 1: 1=0.62, 10=0.544, 100=0.4169, 500=0.3296, 1000=0.26368 (USD); Packaging: Cut Tape (CT); Part Status: Active; Applications: USB; Multiplexer/Demultiplexer Circuit: -; Switch Circuit: DPDT; Voltage - Supply, Dual (V±): -; Features: Break-Before-Make, USB 2.0; Operating Temperature: -40°C ~ 85°C (TA); Package / Case: 10-TFSOP, 10-MSOP (0.118", 3.00mm Width); Supplier Device Package: 10-MSOP; ComponentLink1URL: https://www.fairchildsemi.com/datasheets/FS/FSUSB42.pdf; ComponentLink1Description: https://www.fairchildsemi.com/datasheets/FS/FSUSB42.pdf; Value: FSUSB42MUX; Supplier Part Number 1: FSUSB42MUXCT-ND
footprint MSOP10 (TSSOP, 10-Leads, Body 3,00x3,00mm, Pitch 0,50mm, IPC Medium Density)
pins: 1 VCC, 2 SEL, 3 D+, 4 D-, 5 GND, 6 HSD1-, 7 HSD1+, 8 HSD2-, 9 HSD2+, 10 ~{OE}

## FSUSB42UMX
designator U?
USB MULTIMEDIA SWITCHES; Manufacturer: ON Semiconductor / Fairchild; Number of Inputs: 2; Number of Channels: 1; Min Supply Voltage: 3V; Max Supply Voltage: 4.3V; Data Rate: 480Mbps; Output Current: 100mA; Propagation Delay: 0.25ns; Bandwidth: 720MHz; Nominal Supply Current: 1uA; Turn-Off Delay Time: 25ns; On-State Resistance: 6.5R; Turn-On Delay Time: 30ns; Throw Configuration: DPDT; Supply Type: Single; Supplier 1: Digi-Key; Manufacturer Part Number: FSUSB42UMX; Stock 1: 11386; Pricing 1: 1 = 0,59000, 10 = 0,50200, 100 = 0,37490, 500 = 0,29458, 1000 = 0,22763 (USD); RoHS: Yes; Mount: Surface Mount; Number of Pins: 10; Weight: 18.08g; Min Operating Temperature: -40°C; Max Operating Temperature: 85°C; Number of Outputs: 2; Packaging: Tape and Reel; Operating Supply Voltage: 4.3V; Package Quantity: 1; Number of Ports: 2; Termination: SMD/SMT; Length: 1.4mm; Height: 0.5mm; Width: 1.8mm; Radiation Hardening: No; REACH SVHC: No SVHC; Lead Free: Lead Free; ComponentLink1URL: http://www.farnell.com/datasheets/1815547.pdf?src-supplier=Element14; ComponentLink1Description: http://www.farnell.com/datasheets/1815547.pdf?src-supplier=Element14; ComponentLink2URL: https://www.verical.com/server-webapp/html/getDatasheet?partID=189033&src-supplier=Verical; ComponentLink2Description: https://www.verical.com/server-webapp/html/getDatasheet?partID=189033&src-supplier=Verical; ComponentLink3URL: https://www.fairchildsemi.com/datasheets/FS/FSUSB42.pdf?src-supplier=Avnet+Europe; ComponentLink3Description: https://www.fairchildsemi.com/datasheets/FS/FSUSB42.pdf?src-supplier=Avnet+Europe; ComponentLink4URL: http://www.farnell.com/datasheets/2298664.pdf?src-supplier=Farnell; ComponentLink4Description: http://www.farnell.com/datasheets/2298664.pdf?src-supplier=Farnell; ComponentLink5URL: https://www.fairchildsemi.com/datasheets/FS/FSUSB42.pdf?src-supplier=Avnet; ComponentLink5Description: https://www.fairchildsemi.com/datasheets/FS/FSUSB42.pdf?src-supplier=Avnet; ComponentLink6URL: https://www.fairchildsemi.com/datasheets/FS/FSUSB42.pdf?src-supplier=Digi-Key; ComponentLink6Description: https://www.fairchildsemi.com/datasheets/FS/FSUSB42.pdf?src-supplier=Digi-Key; Value: FSUSB42UMX; Supplier Part Number 1: FSUSB42UMXCT-ND
footprint FSUSB42UMX
pins: 1 D+, 2 D-, 3 GND, 4 HSD1-, 5 HSD1+, 6 HSD2-, 7 HSD2+, 8 ~{OE}, 9 VCC, 10 SEL

## FXMA2102L8X
designator U?  Supplier Part Number 2: NC7SB3157P6XCT-ND
TRANSLATOR/BUFF/REPEAT 8-MLP; Manufacturer: Fairchild/ON Semiconductor; Translator Type: Voltage Level; Channel Type: Bidirectional; Number of Circuits: 1; Channels per Circuit: 2; Voltage - VCCA: 1.65 V ~ 5.5 V; Output Type: Open Drain, Tri-State; Data Rate: 37MHz; Supplier 1: Digi-Key; Manufacturer Part Number: FXMA2102L8X; RoHS: RoHS Compliant; Category: Integrated Circuits (ICs); Stock 1: 26744; Pricing 1: 1=0.62, 10=0.544, 100=0.4169, 500=0.3296, 1000=0.26368 (USD); Packaging: Cut Tape (CT); Part Status: Active; Voltage - VCCB: 1.65 V ~ 5.5 V; Input Signal: -; Output Signal: -; Operating Temperature: -40°C ~ 85°C (TA); Features: -; Mounting Type: Surface Mount; Package / Case: 8-UFQFN; Supplier Device Package: 8-MicroPak™; ComponentLink1URL: https://www.fairchildsemi.com/datasheets/FX/FXMA2102.pdf; ComponentLink1Description: https://www.fairchildsemi.com/datasheets/FX/FXMA2102.pdf; Value: FXMA2102L8X; Supplier Part Number 1: FXMA2102L8XCT-ND; Supplier 2: Digi-Key
footprint MicroPak 8L
pins: 1 VCCA, 2 A0, 3 A1, 4 GND, 5 ~{OE}, 6 B1, 7 B0, 8 VCCB

## HS300 10R F
designator RPOT?, comment 10R/300W
RES CHAS MNT 10 OHM 1% 300W; Manufacturer: Ohmite; Manufacturer Part Number: HS300 10R F; Resistance (Ohms): 10; Temperature Coefficient: ±100ppm/°C; Coating, Housing Type: Aluminum; Populated: Yes; Supplier 1: Digi-Key; Supplier Part Number 1: HS300 10R F-ND; RoHS: RoHS Compliant; Category: Resistors; Stock 1: 28; Pricing 1: 1=35.8, 10=31.482, 50=27.2258, 100=26.748 (USD); Packaging: Bulk; Tolerance: ±1%; Power (Watts): 300W; Composition: Wirewound; Operating Temperature: -; Features: -; Mounting Feature: Flanges; Size / Dimension: 5.027" L x 1.791" W (127.70mm x 45.50mm); Height: 1.646" (41.80mm); Lead Style: M6 Threaded; Package / Case: Axial, Box; ComponentLink1URL: http://www.ohmite.com/cat/acl_hs1.pdf; ComponentLink1Description: http://www.ohmite.com/cat/acl_hs1.pdf; Value: 10R/300W
footprint HS300
pins: 1, 2

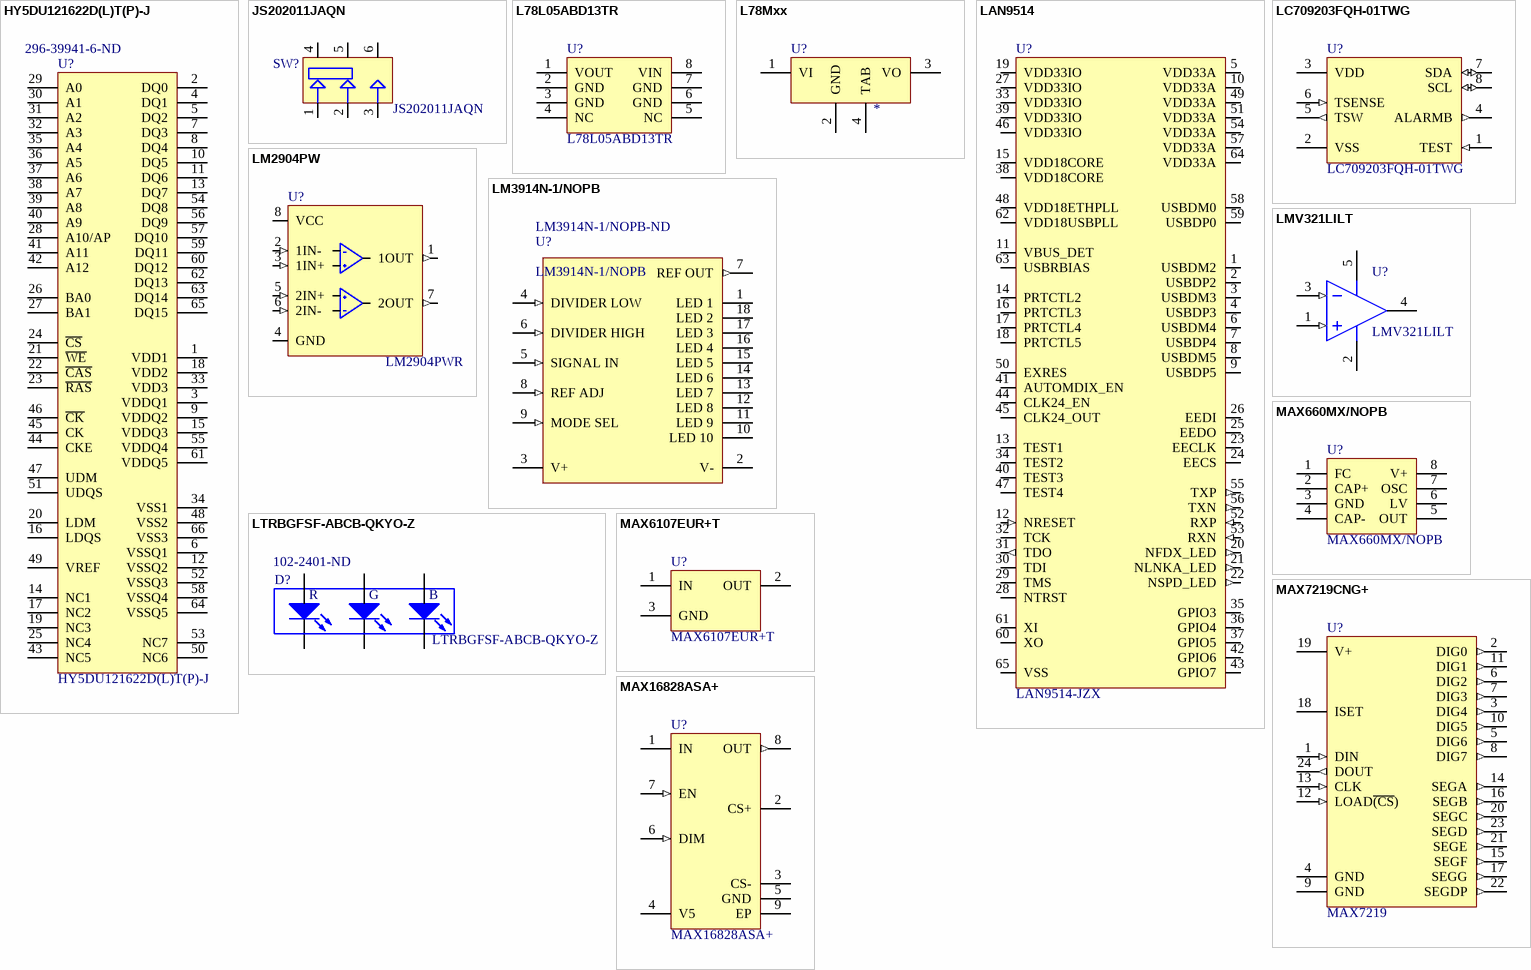
[diagram p1: symbols HY5DU121622D(L)T(P)-J to MAX16828ASA+]

## HY5DU121622D(L)T(P)-J
designator U?  Supplier Part Number 1: 296-39941-6-ND
512Mb DDR SDRAM; Populated: Yes; Value: HY5DU121622D(L)T(P)-J; ClassName: *; ROHS: Yes; Supplier 1: Digi-Key
footprint 66TSOP-II
pins: 1 VDD1 (power), 2 DQ0, 3 VDDQ1 (power), 4 DQ1, 5 DQ2, 6 VSSQ1 (power), 7 DQ3, 8 DQ4, 9 VDDQ2 (power), 10 DQ5, 11 DQ6, 12 VSSQ2 (power), 13 DQ7, 14 NC1, 15 VDDQ3 (power), 16 LDQS, 17 NC2, 18 VDD2 (power), 19 NC3, 20 LDM, 21 ~{WE}, 22 ~{CAS}, 23 ~{RAS}, 24 ~{CS}, 25 NC4, 26 BA0, 27 BA1, 28 A10/AP, 29 A0, 30 A1, 31 A2, 32 A3, 33 VDD3 (power), 34 VSS1 (power), 35 A4, 36 A5, 37 A6, 38 A7, 39 A8, 40 A9, 41 A11, 42 A12, 43 NC5, 44 CKE, 45 CK, 46 ~{CK}, 47 UDM, 48 VSS2 (power), 49 VREF, 50 NC6, 51 UDQS, 52 VSSQ3 (power), 53 NC7, 54 DQ8, 55 VDDQ4 (power), 56 DQ9, 57 DQ10, 58 VSSQ4 (power), 59 DQ11, 60 DQ12, 61 VDDQ5 (power), 62 DQ13, 63 DQ14, 64 VSSQ5 (power), 65 DQ15, 66 VSS3 (power)

## JS202011JAQN
designator SW?
SWITCH SLIDE DPDT 300MA 6V; Manufacturer: ITT C&K; Supplier 1: Digi-Key; Manufacturer Part Number: JS202011JAQN; Stock 1: 21659; Pricing 1: 1 = 0,51000, 10 = 0,48800, 25 = 0,47760, 50 = 0,42680, 100 = 0,40660, 250 = 0,39640, 500 = 0,33542 (USD); Value: JS202011JAQN; Supplier Part Number 1: CKN10722CT-ND
footprint JS202011JAQN
pins: 1, 2, 3, 4, 5, 6

## L78L05ABD13TR
designator U?
Standard Regulator Pos 5V 0.1A 8-Pin SO N T/R; Manufacturer: STMicroelectronics; Output Type: Fixed; Dropout Voltage: 1.7V; Number of Outputs: 1; Output Current: 100mA; Max Input Voltage: 30V; Min Input Voltage: 7V; Polarity: Positive; Quiescent Current: 6mA; Power Supply Rejection Ratio (PSRR): 49dB; Supplier 1: Digi-Key; Manufacturer Part Number: L78L05ABD13TR; RoHS: Yes; Category: Voltage Regulators - Linear; Stock 1: 14988; Pricing 1: 1=0,48000, 10=0,36100, 25=0,32520, 100=0,17730, 250=0,17140, 500=0,15366, 1000=0,11820 (USD); Mount: Surface Mount; Case/Package: SO; Number of Pins: 8; Weight: 0.01lb; Min Operating Temperature: -40°C; Max Operating Temperature: 125°C; Packaging: Tape and Reel; Package Quantity: 1; Max Output Current: 100mA; Output Voltage: 5V; Nominal Output Voltage: 5V; Number of Regulators: 1; Max Output Voltage: 5V; Min Output Voltage: 5V; Length: 5mm; Height: 1.25mm; Width: 4mm; Radiation Hardening: No; Lead Free: Lead Free; REACH SVHC: No SVHC; ComponentLink1URL: https://datasheet.ciiva.com/15111/getdatasheetpartid-90496-15111599.pdf?src-supplier=Verical; ComponentLink1Description: https://datasheet.ciiva.com/15111/getdatasheetpartid-90496-15111599.pdf?src-supplier=Verical; ComponentLink2URL: https://datasheet.ciiva.com/34303/2018984-34303887.pdf?src-supplier=Jameco; ComponentLink2Description: https://datasheet.ciiva.com/34303/2018984-34303887.pdf?src-supplier=Jameco; ComponentLink3URL: https://datasheet.ciiva.com/1512/1868798-1512339.pdf?src-supplier=Element14; ComponentLink3Description: https://datasheet.ciiva.com/1512/1868798-1512339.pdf?src-supplier=Element14; ComponentLink4URL: https://datasheet.ciiva.com/2041/cd00000446-2041814.pdf?src-supplier=Digi-Key; ComponentLink4Description: https://datasheet.ciiva.com/2041/cd00000446-2041814.pdf?src-supplier=Digi-Key; ComponentLink5URL: https://datasheet.ciiva.com/16391/cd00000446-16391590.pdf?src-supplier=Future+Electronics; ComponentLink5Description: https://datasheet.ciiva.com/16391/cd00000446-16391590.pdf?src-supplier=Future+Electronics; ComponentLink6URL: https://datasheet.ciiva.com/4882/cd00000446-4882057.pdf?src-supplier=Mouser; ComponentLink6Description: https://datasheet.ciiva.com/4882/cd00000446-4882057.pdf?src-supplier=Mouser; ComponentLink7URL: https://datasheet.ciiva.com/28652/1868798-28652459.pdf?src-supplier=Element14; ComponentLink7Description: https://datasheet.ciiva.com/28652/1868798-28652459.pdf?src-supplier=Element14; ComponentLink8URL: https://datasheet.ciiva.com/2041/cd00000446-2041813.pdf?src-supplier=Digi-Key; ComponentLink8Description: https://datasheet.ciiva.com/2041/cd00000446-2041813.pdf?src-supplier=Digi-Key; ComponentLink9URL: https://datasheet.ciiva.com/2041/cd00000446-2041815.pdf?src-supplier=Digi-Key; ComponentLink9Description: https://datasheet.ciiva.com/2041/cd00000446-2041815.pdf?src-supplier=Digi-Key; ComponentLink10URL: https://datasheet.ciiva.com/46385/1868798-46385453.pdf?src-supplier=Element14; ComponentLink10Description: https://datasheet.ciiva.com/46385/1868798-46385453.pdf?src-supplier=Element14; Value: L78L05ABD13TR; Supplier Part Number 1: 497-1180-1-ND
footprint SOIC8 (SOIC, 8-Leads, Body 4.9x3.9mm, Pitch 1.27mm, IPC Medium Density)
pins: 1 VOUT, 2 GND, 3 GND, 4 NC, 5 NC, 6 GND, 7 GND, 8 VIN

## L78Mxx
designator U?
IC REG LINEAR; Value: *
footprint DPAK
pins: 1 VI, 2 GND, 3 VO, 4 TAB

## LAN9514
designator U?, comment LAN9514-JZX
IC USB 2.0 Ethernet Controller 64QFN(9x9); Manuf1: Microchip Technology; Populated: Yes; Value: LAN9514-JZX; Manuf1Partnumber: LAN9514-JZX; PackageReference: QFN64(9X9); ROHS: Yes; Supplier 1: Digi-Key; Supplier Part Number 1: 638-1087-ND
footprint QFN64-L
pins: 1 USBDM2 (io), 2 USBDP2 (io), 3 USBDM3 (io), 4 USBDP3 (io), 5 VDD33A (power), 6 USBDM4 (io), 7 USBDP4 (io), 8 USBDM5 (io), 9 USBDP5 (io), 10 VDD33A (power), 11 VBUS_DET, 12 NRESET (in), 13 TEST1, 14 PRTCTL2, 15 VDD18CORE (power), 16 PRTCTL3, 17 PRTCTL4, 18 PRTCTL5, 19 VDD33IO (power), 20 NFDX_LED (out), 21 NLNKA_LED (out), 22 NSPD_LED (out), 23 EECLK (hiz), 24 EECS (hiz), 25 EEDO (hiz), 26 EEDI, 27 VDD33IO (power), 28 NTRST, 29 TMS, 30 TDI, 31 TDO (out), 32 TCK, 33 VDD33IO (power), 34 TEST2, 35 GPIO3 (io), 36 GPIO4 (io), 37 GPIO5 (io), 38 VDD18CORE (power), 39 VDD33IO (power), 40 TEST3, 41 AUTOMDIX_EN, 42 GPIO6 (io), 43 GPIO7 (io), 44 CLK24_EN, 45 CLK24_OUT (hiz), 46 VDD33IO (power), 47 TEST4, 48 VDD18ETHPLL, 49 VDD33A (power), 50 EXRES, 51 VDD33A (power), 52 RXP (in), 53 RXN (in), 54 VDD33A (power), 55 TXP (out), 56 TXN (out), 57 VDD33A (power), 58 USBDM0 (io), 59 USBDP0 (io), 60 XO, 61 XI, 62 VDD18USBPLL (power), 63 USBRBIAS, 64 VDD33A (power), 65 VSS

## LC709203FQH-01TWG
designator U?
IC BATT MONITOR LI-ION 8WDFN; Manufacturer 1: ON Semiconductor; Operating Supply Voltage: 4.5V; Number of Cells: 1; Interface: I2C; Supplier 1: Digi-Key; Manufacturer Part Number 1: LC709203FQH-01TWG; Stock 1: 17368; Pricing 1: 1=1,63000, 10=1,46000, 25=1,38600, 100=1,06430, 250=0,94052, 500=0,89100, 1000=0,69300 (USD); RoHS: Yes; Mount: Surface Mount; Number of Pins: 8; Contact Plating: Tin; Min Operating Temperature: -40°C; Max Operating Temperature: 85°C; Package Quantity: 2000; Packaging: Tape and Reel; Radiation Hardening: No; Lead Free: Lead Free; ComponentLink1URL: http://www.mouser.com/ds/2/308/ENA2237-D-321387.pdf?src-supplier=Mouser; ComponentLink1Description: http://www.mouser.com/ds/2/308/ENA2237-D-321387.pdf?src-supplier=Mouser; ComponentLink2URL: http://www.farnell.com/datasheets/2236954.pdf?src-supplier=Farnell; ComponentLink2Description: http://www.farnell.com/datasheets/2236954.pdf?src-supplier=Farnell; ComponentLink3URL: http://www.onsemi.com/pub/Collateral/ENA2237-D.PDF?src-supplier=Avnet; ComponentLink3Description: http://www.onsemi.com/pub/Collateral/ENA2237-D.PDF?src-supplier=Avnet; ComponentLink4URL: http://www.onsemi.com/pub/Collateral/LC709203F-D.PDF?src-supplier=Digi-Key; ComponentLink4Description: http://www.onsemi.com/pub/Collateral/LC709203F-D.PDF?src-supplier=Digi-Key; ComponentLink5URL: http://www.farnell.com/datasheets/2236954.pdf?src-supplier=Newark; ComponentLink5Description: http://www.farnell.com/datasheets/2236954.pdf?src-supplier=Newark; ComponentLink6URL: http://www.onsemi.com/pub/Collateral/ENA2237-D.PDF?src-supplier=Avnet+Asia; ComponentLink6Description: http://www.onsemi.com/pub/Collateral/ENA2237-D.PDF?src-supplier=Avnet+Asia; Value: LC709203FQH-01TWG; Supplier Part Number 1: LC709203FQH-01TWGOSCT-ND
footprint WDFN8 3X4 (SON, 8-Leads, Body 3,00x4,00mm, Pitch 0,65mm, Thermal Pad 1,80x2,40mm, IPC Medium Density)
pins: 1 TEST (in), 2 VSS, 3 VDD, 4 ALARMB (out), 5 TSW (out), 6 TSENSE (in), 7 SDA (io), 8 SCL (io)

## LM2904PW
designator U?, comment LM2904PWR
IC OPAMP GP 700KHZ 8TSSOP; Manuf1: Texas Instruments; Populated: Yes; Manuf1Partnumber: LM2904PWR; PackageReference: TSSOP-8; Value: LM2904PWR; ROHS: Yes; Supplier 1: Digi-Key; Supplier Part Number 1: 296-9529-1-ND
footprint SOP65P640X120-8N
pins: 1 1OUT (out), 2 1IN- (in), 3 1IN+ (in), 4 GND, 5 2IN+ (in), 6 2IN- (in), 7 2OUT (out), 8 VCC (power)

## LM3914N-1/NOPB
designator U?  Supplier Part Number 1: LM3914N-1/NOPB-ND
TEXAS INSTRUMENTS - LM3914N-1/NOPB - IC, DOT/BAR DISPLAY DRIVER, PDIP-18; Manufacturer: TI National Semiconductor; Max Supply Voltage: 25V; Output Voltage: 1.34V; Number of Segments: 10; Output Current: 30mA; Max Supply Current: 9.2mA; Max Power Dissipation: 1.365W; Min Input Voltage: 1.2V; Max Input Voltage: 12V; Display Type: LCD; Min Supply Voltage: 3V; Supplier 1: Digi-Key; Manufacturer Part Number: LM3914N-1/NOPB; RoHS: Yes; Category: LED Drivers; Mount: Through Hole; Case/Package: PDIP; Number of Pins: 18; Weight: 0.01lb; Contact Plating: Tin,Matte; Min Operating Temperature: 0°C; Max Operating Temperature: 70°C; Packaging: Rail/Tube; Package Quantity: 20; Number of Outputs: 10; Nominal Supply Current: 9.2mA; Number of Channels: 10; Power Dissipation: 1.365W; Max Output Voltage: 1.34V; Termination: Through Hole; Length: 22.86mm; Height: 3.9mm; Width: 6.35mm; Radiation Hardening: No; Lead Free: Lead Free; REACH SVHC: No SVHC; ComponentLink1URL: https://datasheet.ciiva.com/26325/176451-da-01-en-lm-3914-26325920.pdf?src-supplier=Conrad; ComponentLink1Description: https://datasheet.ciiva.com/26325/176451-da-01-en-lm-3914-26325920.pdf?src-supplier=Conrad; ComponentLink2URL: https://datasheet.ciiva.com/6613/lm3914-6613813.pdf?src-supplier=Digi-Key; ComponentLink2Description: https://datasheet.ciiva.com/6613/lm3914-6613813.pdf?src-supplier=Digi-Key; ComponentLink3URL: https://datasheet.ciiva.com/1497/1761256-1497037.pdf?src-supplier=Element14; ComponentLink3Description: https://datasheet.ciiva.com/1497/1761256-1497037.pdf?src-supplier=Element14; Value: LM3914N-1/NOPB
footprint DIP8_SMD (DIP8 SMD Mount)
pins: 1 LED 1 (oc), 2 V- (power), 3 V+ (power), 4 DIVIDER LOW (in), 5 SIGNAL IN (in), 6 DIVIDER HIGH (in), 7 REF OUT (out), 8 REF ADJ (in), 9 MODE SEL (in), 10 LED 10 (oc), 11 LED 9 (oc), 12 LED 8 (oc), 13 LED 7 (oc), 14 LED 6 (oc), 15 LED 5 (oc), 16 LED 4 (oc), 17 LED 3 (oc), 18 LED 2 (oc)

## LMV321LILT
designator U?
OP Amp Single GP R-R O/P 5.5V 5-Pin SOT-23 T/R; Manufacturer 1: STMicroelectronics; Gain Bandwidth Product: 1.3MHz; Input Offset Voltage (Vos): 1mV; Input Bias Current: 27nA; Operating Supply Current: 130uA; Number of Circuits: 1; Output Current per Channel: 70mA; Common Mode Rejection Ratio: 72dB; Output Current: 46mA; Slew Rate: 0.7V/µs; Nominal Supply Current: 220uA; Min Supply Voltage: 2.7V; Voltage Gain: 100dB; Supplier 1: Digi-Key; Manufacturer Part Number 1: LMV321LILT; RoHS: Yes; Category: Amplifiers - Op Amps, Buffer, Instrumentation; Stock 1: 63614; Pricing 1: 1=0,40000, 10=0,34200, 25=0,31960, 100=0,23740, 250=0,20088, 500=0,19174, 1000=0,14152 (USD); Mount: Surface Mount; Case/Package: SOT-23-5; Number of Pins: 5; Min Operating Temperature: -40°C; Max Operating Temperature: 125°C; Number of Elements: 1; Number of Channels: 1; Packaging: Tape and Reel; Max Supply Voltage: 5.5V; Package Quantity: 1; Unity Gain Bandwidth Product: 1.3MHz; Radiation Hardening: No; Lead Free: Lead Free; ComponentLink1URL: https://datasheet.ciiva.com/41459/001184778-da-01-en-ic-op-amp-sgl-r-lmv321lilt-sot-23-5-stm-41459588.pdf?src-supplier=Conrad; ComponentLink1Description: https://datasheet.ciiva.com/41459/001184778-da-01-en-ic-op-amp-sgl-r-lmv321lilt-sot-23-5-stm-41459588.pdf?src-supplier=Conrad; ComponentLink2URL: https://datasheet.ciiva.com/6629/dm00052423-6629959.pdf?src-supplier=Digi-Key; ComponentLink2Description: https://datasheet.ciiva.com/6629/dm00052423-6629959.pdf?src-supplier=Digi-Key; ComponentLink3URL: https://datasheet.ciiva.com/6629/dm00052423-6629960.pdf?src-supplier=Digi-Key; ComponentLink3Description: https://datasheet.ciiva.com/6629/dm00052423-6629960.pdf?src-supplier=Digi-Key; ComponentLink4URL: https://datasheet.ciiva.com/6629/dm00052423-6629961.pdf?src-supplier=Digi-Key; ComponentLink4Description: https://datasheet.ciiva.com/6629/dm00052423-6629961.pdf?src-supplier=Digi-Key; ComponentLink5URL: https://datasheet.ciiva.com/16209/dm00052423-16209067.pdf?src-supplier=Future+Electronics; ComponentLink5Description: https://datasheet.ciiva.com/16209/dm00052423-16209067.pdf?src-supplier=Future+Electronics; ComponentLink6URL: https://datasheet.ciiva.com/2966/dm00052423-2966012.pdf?src-supplier=Avnet; ComponentLink6Description: https://datasheet.ciiva.com/2966/dm00052423-2966012.pdf?src-supplier=Avnet; Value: LMV321LILT; Supplier Part Number 1: 497-13051-1-ND
footprint SOT23-5L (SOT23, 5-Leads, Body 2.90x2.80mm, Pitch 0.95mm, IPC Medium Density)
pins: 1 IN+ (in), 2 VCC- (power), 3 IN- (in), 4 OUT (hiz), 5 VCC+ (power)

## LTRBGFSF-ABCB-QKYO-Z
designator D?  Supplier Part Number 2: 102-2401-ND
LED RGB DIFFUSED 6SMD; Manufacturer: OSRAM Opto Semiconductors Inc.; Color: Red, Green, Blue (RGB); Millicandela Rating: 700mcd Red, 1350mcd Green, 160mcd Blue; Lens Style/Size: Square with Flat Top; Voltage - Forward (Vf) (Typ): 2.05V Red, 3.2V Green, 3.2V Blue; Current - Test: 20mA Red, 20mA Green, 10mA Blue; Viewing Angle: 120°; Wavelength - Dominant: 625nm Red, 530nm Green, 460mn Blue; Wavelength - Peak: 632nm Red, 523nm Green, 465nm Blue; Supplier 1: Digi-Key; Manufacturer Part Number: LTRBGFSF-ABCB-QKYO-Z; RoHS: RoHS Compliant; Category: Optoelectronics; Stock 1: 93519; Pricing 1: 1=0.81, 10=0.629, 25=0.5212, 100=0.4492, 250=0.39532, 500=0.3414 (USD); Packaging: Cut Tape (CT); Part Status: Active; Lens Color: -; Lens Transparency: Diffused; Mounting Type: Surface Mount; Features: -; Package / Case: 6-SMD, J-Lead; Supplier Device Package: 6-PLCC; Size / Dimension: 3.30mm L x 3.00mm W; Height (Max): 2.00mm; ComponentLink1URL: http://www.osram-os.com/Graphics/XPic9/00134830_0.pdf; ComponentLink1Description: http://www.osram-os.com/Graphics/XPic9/00134830_0.pdf; Value: LTRBGFSF-ABCB-QKYO-Z; Supplier Part Number 1: 475-2899-1-ND; Supplier 2: Digi-Key
footprint LRTB-GFTM
pins: A1, A2, A3, C1, C2, C3
text: R; G; B